# EAGLE library part MCP2551-I/P (library MCP2551-I_P)
High-Speed CAN Transceiver
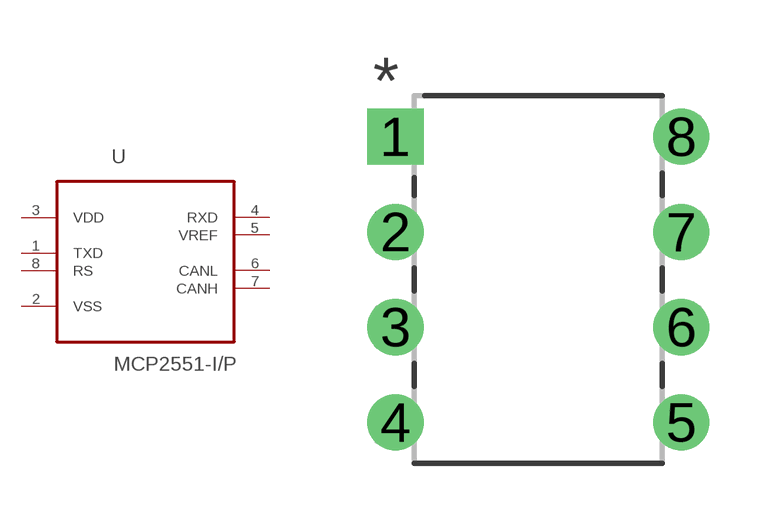
[diagram p0: symbol with the pads of DIP254P762X432-8; footprint DIP254P762X432-8]

Designator prefix -

## MCP2551-I/P (Description: MCP2551 Series 5.5 V 1 Mb/s Surface Mount High-Speed CAN Transceiver - PDIP-8; Digi-Key_Part_Number: MCP2551-I/P-ND; Digi-Key_Purchase_URL: https://www.digikey.com/product-detail/en/microchip-technology/MCP2551-I-P/MCP2551-I-P-ND/509453?WT.z_cid=ref_snapeda; MF: Microchip; MP: MCP2551-I/P; Package: DIP-8 Microchip)  [DIP254P762X432-8]
1  TXD  in
2  VSS  pwr
3  VDD  pwr
4  RXD  out
5  VREF  out
6  CANL
7  CANH
8  RS  in

## Footprint DIP254P762X432-8 (pad centres in mm)
drill 0.991 square: 1 -7.62,7.62
drill 0.991: 2 -7.62,5.08; 3 -7.62,2.54; 4 -7.62,0; 5 0,0; 6 0,2.54; 7 0,5.08; 8 0,7.62